# Altium footprint library IFX-PG-TO220-3-904.PcbLib: 1 footprints
Each footprint in its own frame and in the unit in brackets; x right, y up, seen from the top. Pads: shape width x height; smd on the part's side, far side on the other; paste and mask are expansions set on the pad; w line width, h text height; cw(c..) or ccw(c..) is an arc to the next point about the centre after c.
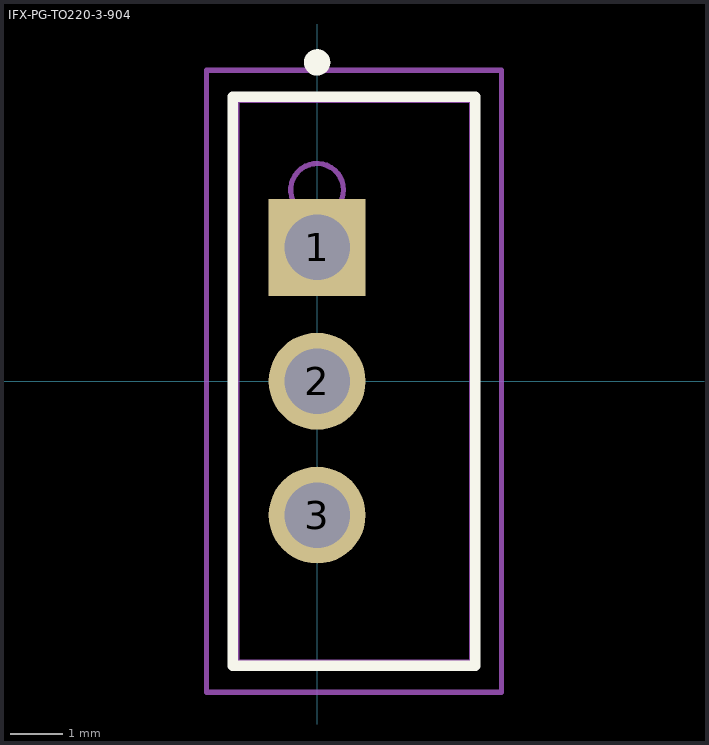
[diagram p0: the footprint, top view; thin cyan lines are the x and y axes]

## IFX-PG-TO220-3-904 [mm] "TO,flange mount,2.54mm pitch;3 pin,4.45mm L X 10.66mm W X 19.15mm H body"
height 19.15
pads (3):
  rect 1.84x1.84 hole 1.24 paste+0 mask+0: 1(0,2.54)
  round 1.84 hole 1.24 paste+0 mask+0: 2(0,0) 3(0,-2.54)
Top Overlay:
  circle w0.25: c0,6.05 r0.125
  lines w0.2: -1.6,-5.4 3,-5.4 3,5.4 -1.6,5.4 -1.6,-5.4
M3 (ASY_Text_Top):
  text ".DESIGNATOR" at 0,0 h1.2
M13 (CMP_Body_OTL_Top):
  circle w0.1: c0,3.632 r0.5
  lines w0.1: -1.52,-5.33 2.93,-5.33 2.93,5.33 -1.52,5.33 -1.52,-5.33
M15 (CMP_Courtyard_Top):
  lines w0.1: -0.5,0 0.5,0 ; 0,-0.5 0,0.5 ; -2.1,-5.9 3.5,-5.9 3.5,5.9 -2.1,5.9 -2.1,-5.9
3D body "PG-TO220-3-904_Z8B00185321_V03_3D.stp": height 19.1, standoff -9.85, extent -1.53,-5.33 2.93,5.33